# Altium schematic symbol library BSC076N06NS3 G.SchLib: 1 symbol
Pins are listed as number, name and electrical type; pins without a type are passive.

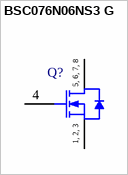
[diagram p0: symbol BSC076N06NS3 G]

## BSC076N06NS3 G
designator Q?
N-Channel OptiMOS 3 Power-Transistor, 60 V VDS, 50 A ID, -55 to 150 degC, PG-TDSON-8-1, Reel, Green; Manufacturer: Infineon; PartNumber: BSC076N06NS3 G; Green: TRUE; ID (max): 50 A; IDpuls (max): 200 A; Polarity: N; Ptot (max): 69 W; QG: 37 nC; RDS (on) (max): 7.6 mOhm; Rth: 1.8 K/W; RthJA (max): 50 K/W; VDS (max): 60 V; VGS(th) (max): 4 V; VGS(th) (min): 2 V; DatasheetVersion: Rev. 2.3; PackageReference: PG-TDSON-8-1; PackageDescription: 8-Pin Plastic (Green) Thin Dual Small Outline Non-Leaded Package, 5.15 x 5.9 mm Body, 1.27 mm Pitch; Supplier 1: Digi-Key; Supplier Part Number 1: BSC076N06NS3 GTR-ND; Supplier 2: Digi-Key; Supplier Part Number 2: BSC076N06NS3 GCT-ND; Supplier 3: Digi-Key; Supplier Part Number 3: BSC076N06NS3 GDKR-ND; Supplier 4: Mouser; Supplier Part Number 4: 726-BSC076N06NS3G; Halogen-free: TRUE; Packing: Reel; RthJC (max): 1.8 K/W; Mounting Technology: Surface Mount; ComponentLink1Description: Manufacturer URL; ComponentLink1URL: http://www.infineon.com/; ComponentLink2Description: Datasheet; ComponentLink2URL: http://www.infineon.com/dgdl/BSC076N06NS3_Rev2.3.pdf?folderId=db3a30431ddc9372011ebafa04517f8b&fileId=db3a30431ddc9372011ebb04d68c7fc7; ComponentLink3Description: Package Specification; ComponentLink3URL: http://www.infineon.com/cms/packages/SMD_-_Surface_Mounted_Devices/P-PG-TDSON/P-PG-TDSON-08-01x_2x_3.html?__locale=en
footprint INF-PG-TDSON-8-1_V (TDSON, 8-Leads, Body 6.15x5.15mm, Pitch 1.27mm)
pins: 1 SOURCE, 2 SOURCE, 3 SOURCE, 4 GATE, 5 DRAIN, 6 DRAIN, 7 DRAIN, 8 DRAIN
text: 5, 6, 7, 8; 1, 2, 3